# Altium schematic symbol library sn65hvd1782d.SchLib: 1 symbol
Pins are listed as number, name and electrical type; pins without a type are passive.

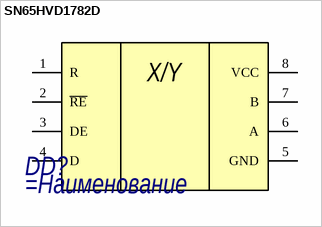
[diagram p0: symbol SN65HVD1782D]

## SN65HVD1782D
designator DD?
=Описание
pins: 1 R, 2 ~{RE}, 3 DE, 4 D, 5 GND, 6 A, 7 B, 8 VCC
text: X/Y